# Altium footprint library TE_7-534998-5.PcbLib: 1 footprints
Each footprint in its own frame and in the unit in brackets; x right, y up, seen from the top. Pads: shape width x height; smd on the part's side, far side on the other; paste and mask are expansions set on the pad; w line width, h text height; cw(c..) or ccw(c..) is an arc to the next point about the centre after c.
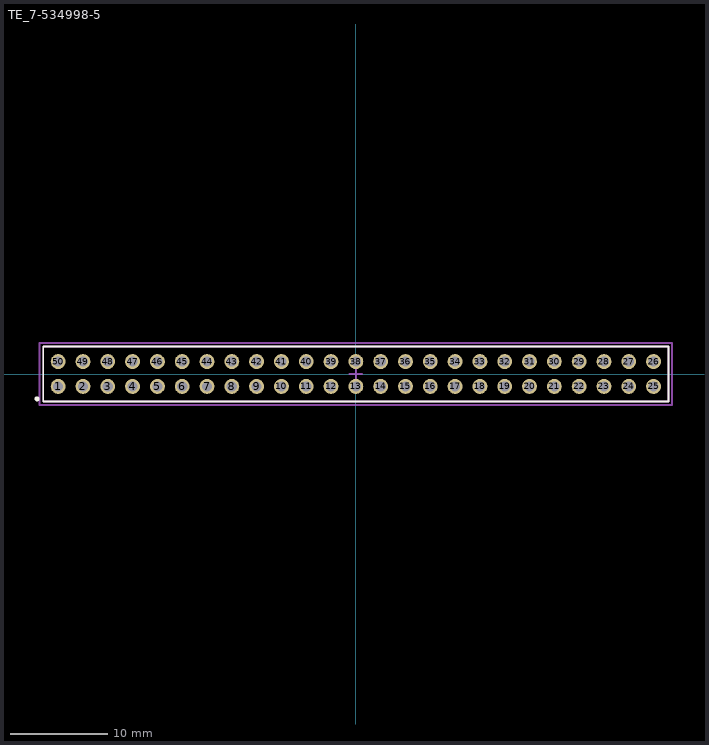
[diagram p0: the footprint, top view; thin cyan lines are the x and y axes]

## TE_7-534998-5 [mil]
pads (50):
  round 60 hole 41: 1(-1200,-50) 2(-1100,-50) 3(-1000,-50) 4(-900,-50) 5(-800,-50) 6(-700,-50) 7(-600,-50) 8(-500,-50) 9(-400,-50) 10(-300,-50) 11(-200,-50) 12(-100,-50) 13(0,-50) 14(100,-50) 15(200,-50) 16(300,-50) 17(400,-50) 18(500,-50) 19(600,-50) 20(700,-50) 21(800,-50) 22(900,-50) 23(1000,-50) 24(1100,-50) 25(1200,-50) 26(1200,50) 27(1100,50) 28(1000,50) 29(900,50) 30(800,50) 31(700,50) 32(600,50) 33(500,50) 34(400,50) 35(300,50) 36(200,50) 37(100,50) 38(0,50) 39(-100,50) 40(-200,50) 41(-300,50) 42(-400,50) 43(-500,50) 44(-600,50) 45(-700,50) 46(-800,50) 47(-900,50) 48(-1000,50) 49(-1100,50) 50(-1200,50)
Top Overlay:
  circle w10: c-1285,-100 r5
  lines w7.87: -1260,-110 1260,-110 1260,110 -1260,110 -1260,-110
Mechanical 15:
  lines w7.87: -25,0 25,0 ; 0,-25 0,25 ; -1275,-125 -1275,125 1275,125 1275,-125 -1275,-125
Mechanical 17:
  lines w7.87: -1260,-110 -1260,110 1260,110 1260,-110 -1260,-110
  text ".Designator" at -1215,-65 h60
Mechanical 19:
  lines w7.87: -1260,-110 -1260,110 1260,110 1260,-110 -1260,-110
  text ".Comment" at -1230,-70 h60
3D body: height 265, standoff -125, extent -1249.99,-98.99 1250.01,99